# Altium footprint library Diode-Bridge.PcbLib: 18 footprints (part 2 of 2)
Each footprint in its own frame and in the unit in brackets; x right, y up, seen from the top. Pads: shape width x height; smd on the part's side, far side on the other; paste and mask are expansions set on the pad; w line width, h text height; cw(c..) or ccw(c..) is an arc to the next point about the centre after c.
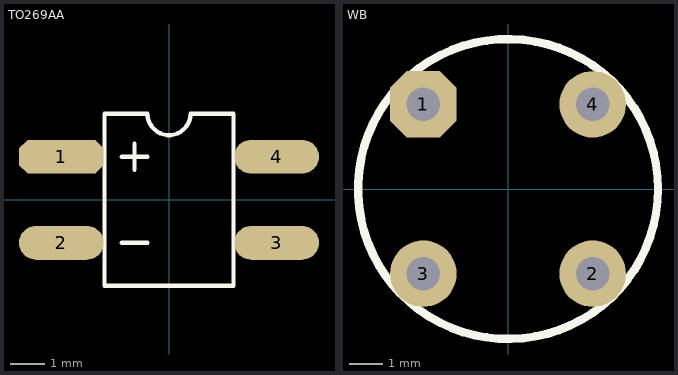
[diagram p1: the footprints below, top view; thin cyan lines are the x and y axes]

## TO269AA [mm] "SMD 2.54mm x 6.35mm"
pads (4):
  oct 2.5x1 smd: 1(-3.175,1.27)
  oval 2.5x1 smd: 2(-3.175,-1.27) 3(3.175,-1.27) 4(3.175,1.27)
Top Overlay:
  lines w0.127: -1.397,-1.27 -0.635,-1.27 ; -1.397,1.27 -0.635,1.27 ; -1.016,0.889 -1.016,1.651 ; -1.905,-2.54 1.905,-2.54 1.905,2.54 0.635,2.54 cw(c0,2.54) -0.635,2.54 -1.905,2.54 -1.905,-2.54
3D body: height 2.95, standoff 0.05, extent -3.8,-2.45 3.8,2.45

## WB [mm]
pads (4):
  oct 2x2 hole 1: 1(-2.54,2.54)
  round 2 hole 1: 2(2.54,-2.54) 3(-2.54,-2.54) 4(2.54,2.54)
Top Overlay:
  circle w0.254: c0,0 r4.5
  lines w0.127: -3.175,2.54 -1.905,2.54 ; -2.54,1.905 -2.54,3.175 ; 1.905,-2.54 3.175,-2.54